# Altium integrated library LIB2022 - Connectors.IntLib: 41 symbols
Pins are listed as number, name and electrical type; pins without a type are passive.

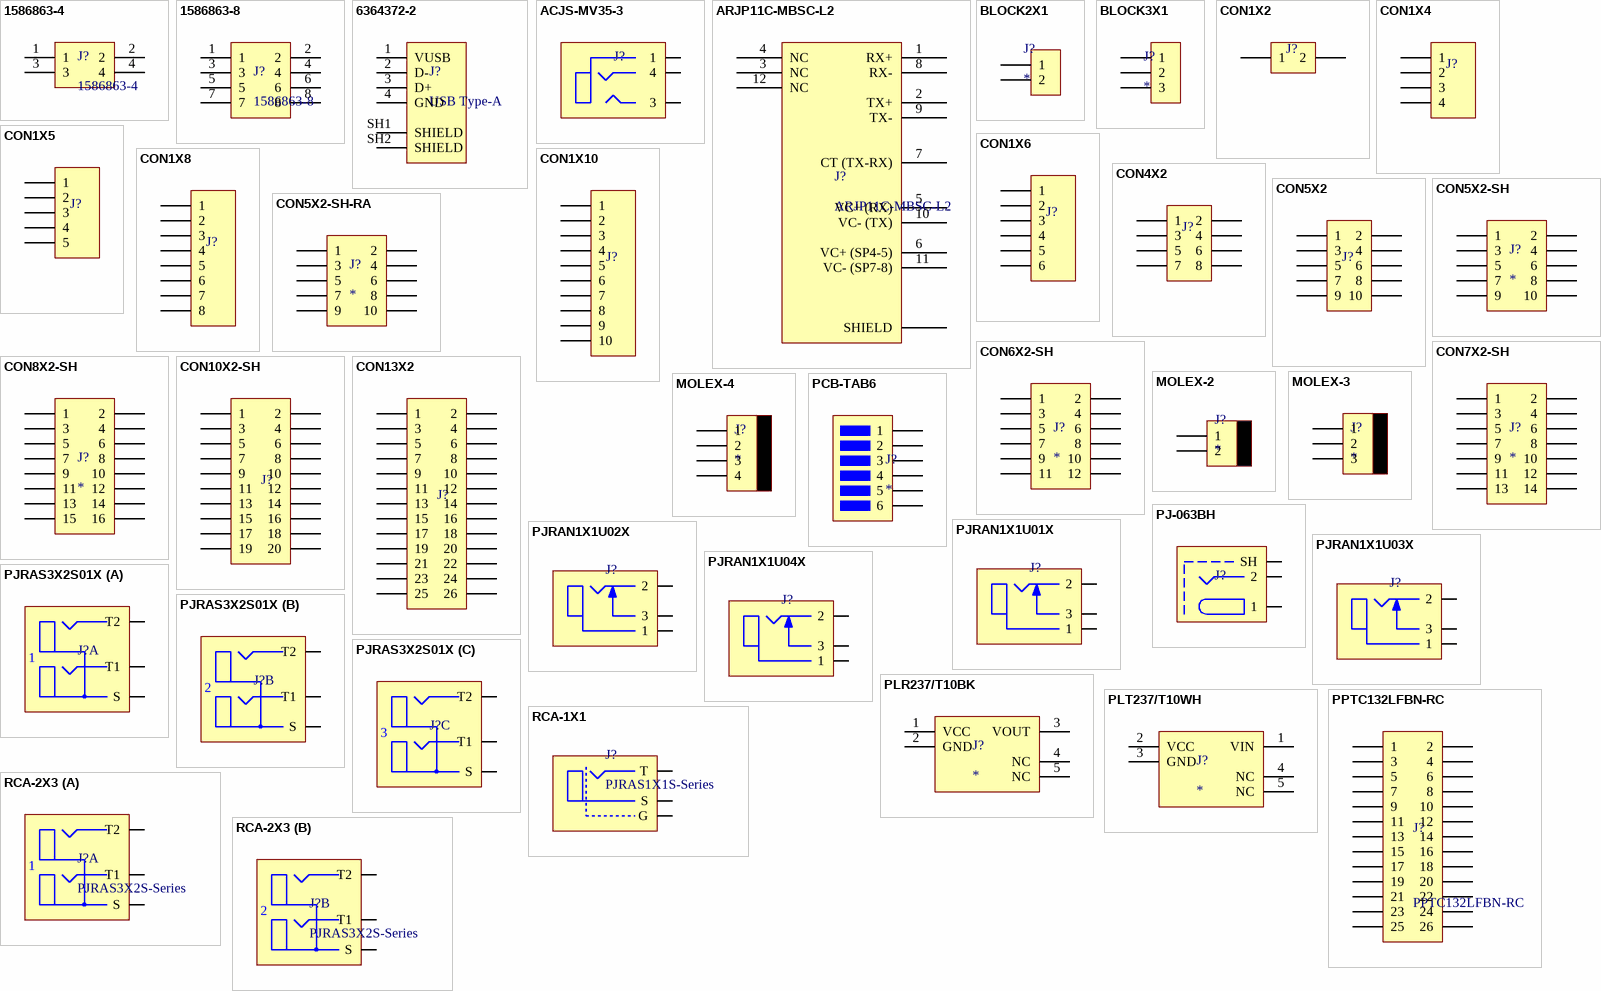
[diagram p0: symbols 1586863-4 to RCA-2X3]

## 1586863-4
designator J?
Connector Header Through Hole, Right Angle 4 position 0.165" (4.20mm); Digikey_PN: 1586863-4-ND
footprint 1586863-4
pins: 1, 2, 3, 4

## 1586863-8
designator J?
Connector Header Through Hole, Right Angle 8 position 0.165" (4.20mm); Digikey_PN: 1586863-8-ND
footprint 1586863-8
pins: 1, 2, 3, 4, 5, 6, 7, 8

## 6364372-2
designator J?, comment USB Type-A
USB-A (USB TYPE-A) USB 2.0 Receptacle Connector 4 Position Through Hole, Right Angle; MP: 6364372-2; MF: TE Connectivity; Digi-Key_Purchase_URL: https://www.digikey.com/product-detail/en/te-connectivity-amp-connectors/6364372-2/A122647-ND/2286712?utm_source=snapeda&utm_medium=aggregator&utm_campaign=symbol; SnapEDA_Link: https://www.snapeda.com/parts/6364372-2/TE%20Connectivity%20AMP%20Connectors/view-part/2053020/?ref=snap; EU_RoHS_Compliance: Compliant; Digikey_PN: A122647-ND; TE_purchase_URL: https://www.te.com/usa-en/product-6364372-2.html?te_bu=Cor&te_type=disp&te_campaign=seda_glo_cor-seda-global-disp-prtnr-fy19-seda-model-bom-cta_sma-317_1&elqCampaignId=32493; Digi-Key_Part_Number: A122647-ND; Package: None
footprint 6364372-2
pins: 1 VUSB, 2 D-, 3 D+, 4 GND, SH1 SHIELD, SH2 SHIELD

## ACJS-MV35-3
designator J?
footprint JACK-3.5-3POS - PANEL
pins: 1, 3, 4

## ARJP11C-MBSC-L2
designator J?
1 Port RJ45Through Hole 10/100 Base-T, AutoMDIX, Power over Ethernet (PoE); Digikey_PN: ARJP11C-MBSC-L2-ND
footprint ARJP11C-MB (Magjack Conector for PoE)
pins: 1 RX+, 2 TX+, 3 NC, 4 NC, 5 VC+ (RX), 6 VC+ (SP4-5), 7 CT (TX-RX), 8 RX-, 9 TX-, 10 VC- (TX), 11 VC- (SP7-8), 12 NC, SHIELD

## BLOCK2X1
designator J?
footprint BLOCK2 (Bornera con Tornillos 5mm separacion)
pins: 1, 2

## BLOCK3X1
designator J?
footprint BLOCK3 (Bornera con Tornillos 5mm separacion)
pins: 1, 2, 3

## CON1X2
designator J?
footprint SIP1X2
pins: 1, 2

## CON1X4
designator J?
footprint SIP1X4
pins: 1, 2, 3, 4

## CON1X5
designator J?
footprint SIP1X5
pins: 1, 2, 3, 4, 5

## CON1X6
designator J?
footprint SIP1X6
pins: 1, 2, 3, 4, 5, 6

## CON1X8
designator J?
footprint SIP1X8
pins: 1, 2, 3, 4, 5, 6, 7, 8

## CON1X10
designator J?
footprint SIP1X10
pins: 1, 2, 3, 4, 5, 6, 7, 8, 9, 10

## CON4X2
designator J?
footprint SIP4X2
pins: 1, 2, 3, 4, 5, 6, 7, 8

## CON5X2
designator J?
footprint SIP5X2
pins: 1, 2, 3, 4, 5, 6, 7, 8, 9, 10

## CON5X2-SH
designator J?
Connector Header Through Hole 10 position 0.100" (2.54mm)
footprint SIP5X2-SH
pins: 1, 2, 3, 4, 5, 6, 7, 8, 9, 10

## CON5X2-SH-RA
designator J?
Connector Header Through Hole 10 position 0.100" (2.54mm) Right Angle
footprint SIP5X2-SH-RA
pins: 1, 2, 3, 4, 5, 6, 7, 8, 9, 10

## CON6X2-SH
designator J?
Connector Header Through Hole 12 position 0.100" (2.54mm)
footprint SIP6X2-SH
pins: 1, 2, 3, 4, 5, 6, 7, 8, 9, 10, 11, 12

## CON7X2-SH
designator J?
Connector Header Through Hole 14 position 0.100" (2.54mm)
footprint SIP7X2-SH
pins: 1, 2, 3, 4, 5, 6, 7, 8, 9, 10, 11, 12, 13, 14

## CON8X2-SH
designator J?
Connector Header Through Hole 16 position 0.100" (2.54mm)
footprint SIP8X2-SH
pins: 1, 2, 3, 4, 5, 6, 7, 8, 9, 10, 11, 12, 13, 14, 15, 16

## CON10X2-SH
designator J?
Connector Header Through Hole 20 position 0.100" (2.54mm)
footprint SIP10X2-SH
pins: 1, 2, 3, 4, 5, 6, 7, 8, 9, 10, 11, 12, 13, 14, 15, 16, 17, 18, 19, 20

## CON13X2
designator J?
footprint SIP13X2
pins: 1, 2, 3, 4, 5, 6, 7, 8, 9, 10, 11, 12, 13, 14, 15, 16, 17, 18, 19, 20, 21, 22, 23, 24, 25, 26

## MOLEX-2
designator J?
footprint MOLEX-2 (Connector 1x2, Pitch 100mil)
pins: 1, 2

## MOLEX-3
designator J?
footprint MOLEX-3 (Connector 1x3, Pitch 100mil)
pins: 1, 2, 3

## MOLEX-4
designator J?
footprint MOLEX-4 (Connector 1x4, Pitch 100mil)
pins: 1, 2, 3, 4

## PCB-TAB6
designator J?
footprint PCB-TAB6 (External Tabs x 6, Pitch 4mm)
pins: 1, 2, 3, 4, 5, 6

## PJ-063BH
designator J?
CONN POWER JACK 2.5X5.5MM RA; Digikey_PN: CP-063BH-ND
footprint PJ-063BH
pins: 1, 2, 3 SH

## PJRAN1X1U01X
designator J?
CONN RCA JACK MONO 3.2MM R/A BLACK; Digikey_PN: PJRAN1X1U01X-ND
footprint RCA1X1-RA - SW
pins: 1, 2, 3

## PJRAN1X1U02X
designator J?
CONN RCA JACK MONO 3.2MM R/A WHITE; Digikey_PN: PJRAN1X1U02X-ND
footprint RCA1X1-RA - SW
pins: 1, 2, 3

## PJRAN1X1U03X
designator J?
CONN RCA JACK MONO 3.2MM R/A RED; Digikey_PN: PJRAN1X1U03X-ND
footprint RCA1X1-RA - SW
pins: 1, 2, 3

## PJRAN1X1U04X
designator J?
CONN RCA JACK MONO 3.2MM R/A YELLOW; Digikey_PN: PJRAN1X1U04X-ND
footprint RCA1X1-RA - SW
pins: 1, 2, 3

## PJRAS3X2S01X
designator J?
3.20mm ID, 9.00mm OD (RCA) Phono (RCA) Jack Mono Connector Solder; Digikey_PN: SC1860-ND
footprint RCA2X3-RA
part A pins: S1 S, T1-1 T1, T2-1 T2
part B pins: S2 S, T1-2 T1, T2-2 T2
part C pins: S3 S, T1-3 T1, T2-3 T2
part A text: 1
part B text: 2
part C text: 3

## PLR237/T10BK
designator J?
FIBER OPTIC RECEIVER IR; Digikey_PN: 1080-PLR237/T10BK-ND
footprint PLR237/T10BK
pins: 1 VCC, 2 GND, 3 VOUT, 4 NC, 5 NC

## PLT237/T10WH
designator J?
FIBER OPTIC TRANSMITTER IR; Digikey_PN: 1080-PLT237/T10WH-ND
footprint PLR237/T10BK
pins: 1 VIN, 2 VCC, 3 GND, 4 NC, 5 NC

## PPTC132LFBN-RC
designator J?
26 Position Header Connector 0.100" (2.54mm) Through Hole Tin; Digikey_PN: S7081-ND
footprint SIP13X2-FEM
pins: 1, 2, 3, 4, 5, 6, 7, 8, 9, 10, 11, 12, 13, 14, 15, 16, 17, 18, 19, 20, 21, 22, 23, 24, 25, 26

## RCA-1X1
designator J?, comment PJRAS1X1S-Series
footprint RCA1X1-RA
pins: G, S, T

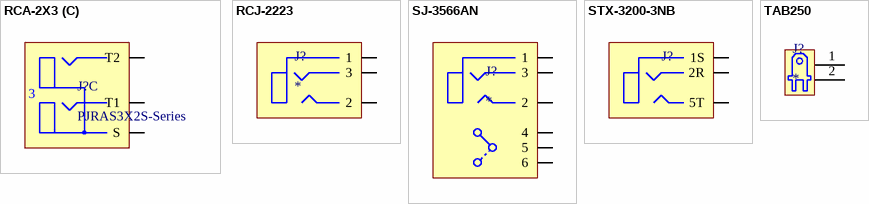
[diagram p1: symbols RCA-2X3 to TAB250]

## RCA-2X3
designator J?, comment PJRAS3X2S-Series
footprint RCA2X3-RA
part A pins: S1 S, T1-1 T1, T2-1 T2
part B pins: S2 S, T1-2 T1, T2-2 T2
part C pins: S3 S, T1-3 T1, T2-3 T2
part A text: 1
part B text: 2
part C text: 3

## RCJ-2223
designator J?
CONN RCA JACK STEREO 3.2MM R/A RED/WHITE; Digikey_PN: CP-1435-ND
footprint RCJ-2223
pins: 1, 2, 3

## SJ-3566AN
designator J?
CONN JACK STEREO 3.5MM R/A; Digikey_PN: CP-SJ-3566AN-ND
footprint SJ-3566AN
pins: 1, 2, 3, 4, 5, 6

## STX-3200-3NB
designator J?
footprint JACK-3.5-3POS
pins: 1S, 2R, 5T

## TAB250
designator J?
footprint TAB250-200P
footprint TAB250-250P
pins: 1, 2